# Altium footprint library RP2040TR7.PcbLib: 1 footprints
Each footprint in its own frame and in the unit in brackets; x right, y up, seen from the top. Pads: shape width x height; smd on the part's side, far side on the other; paste and mask are expansions set on the pad; w line width, h text height; cw(c..) or ccw(c..) is an arc to the next point about the centre after c.
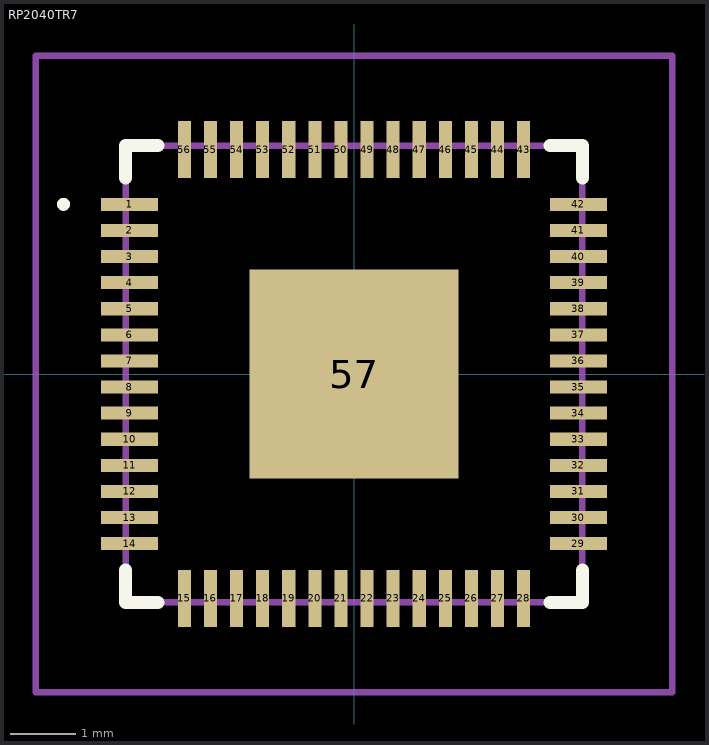
[diagram p0: the footprint, top view; thin cyan lines are the x and y axes]

## RP2040TR7 [mm]
pads (57):
  rect 0.875x0.2 smd: 1(-3.438,2.6) 2(-3.438,2.2) 3(-3.438,1.8) 4(-3.438,1.4) 5(-3.438,1) 6(-3.438,0.6) 7(-3.438,0.2) 8(-3.438,-0.2) 9(-3.438,-0.6) 10(-3.438,-1) 11(-3.438,-1.4) 12(-3.438,-1.8) 13(-3.438,-2.2) 14(-3.438,-2.6) 29(3.438,-2.6) 30(3.438,-2.2) 31(3.438,-1.8) 32(3.438,-1.4) 33(3.438,-1) 34(3.438,-0.6) 35(3.438,-0.2) 36(3.438,0.2) 37(3.438,0.6) 38(3.438,1) 39(3.438,1.4) 40(3.438,1.8) 41(3.438,2.2) 42(3.438,2.6)
  rect 0.2x0.875 smd: 15(-2.6,-3.438) 16(-2.2,-3.438) 17(-1.8,-3.438) 18(-1.4,-3.438) 19(-1,-3.438) 20(-0.6,-3.438) 21(-0.2,-3.438) 22(0.2,-3.438) 23(0.6,-3.438) 24(1,-3.438) 25(1.4,-3.438) 26(1.8,-3.438) 27(2.2,-3.438) 28(2.6,-3.438) 43(2.6,3.438) 44(2.2,3.438) 45(1.8,3.438) 46(1.4,3.438) 47(1,3.438) 48(0.6,3.438) 49(0.2,3.438) 50(-0.2,3.438) 51(-0.6,3.438) 52(-1,3.438) 53(-1.4,3.438) 54(-1.8,3.438) 55(-2.2,3.438) 56(-2.6,3.438)
  rect 3.2x3.2 smd: 57(0,0)
Top Overlay:
  lines w0.1: -4.5,2.6 -4.5,2.6 ; -4.5,2.6 ccw(c-4.45,2.6) -4.4,2.6 ; -4.5,2.6 cw(c-4.45,2.6) -4.4,2.6 ; -4.4,2.6 -4.4,2.6
  lines w0.2: -3.5,-3 -3.5,-3.5 -3,-3.5 ; -3.5,3 -3.5,3.5 -3,3.5 ; 3,-3.5 3.5,-3.5 3.5,-3 ; 3,3.5 3.5,3.5 3.5,3
Mechanical 15:
  lines w0.1: -3.5,-3.5 3.5,-3.5 3.5,3.5 -3.5,3.5 -3.5,-3.5
Mechanical 20:
  lines w0.1: -4.875,-4.875 4.875,-4.875 4.875,4.875 -4.875,4.875 -4.875,-4.875
3D body "RP2040TR7.stp": height 5.8, standoff -4.65, extent -10,-3.376 10,3.376